# EAGLE library part WIRL-COMB_2620011024000 (library WIRL)
Skoll-I - Bluetooth® Classic and Bluetooth® LE 2.4 GHz WIRL-COMB Details see: https://we-online.de/katalog/en/article/2620011024000/
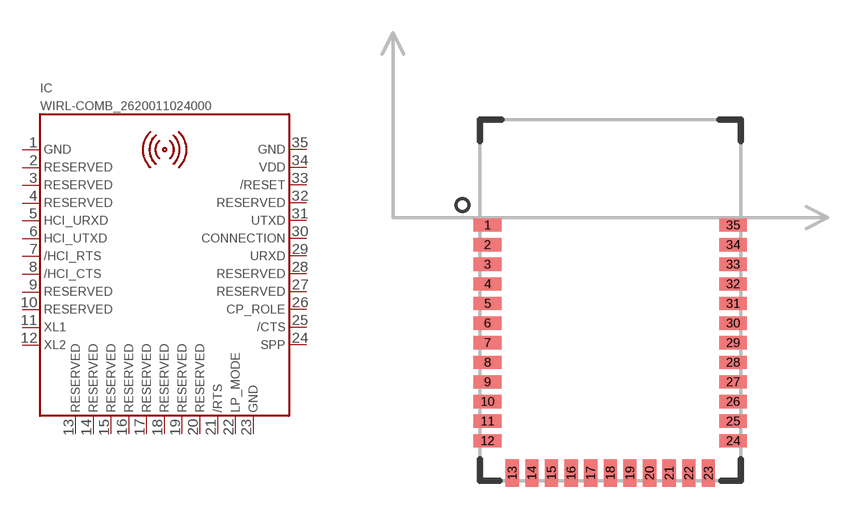
[diagram p44: symbol with the pads of WE-FP-9; footprint WE-FP-9]

Designator prefix IC

## WIRL-COMB_2620011024000 (DATASHEET: https://www.we-online.com/redexpert/spec/2620011024000?ae; HEIGHT: 1.7mm; MANUFACTURER: Würth Elektronik; MOUNT: SMT; PACK: SMT; PART-NUMBER: 2620011024000; PREFIX: IC; VALUE: 2620011024000)  [WE-FP-9]
1  1  pwr
2  2
3  3
4  4
5  5
6  6
7  7
8  8
9  9
10  10
11  11
12  12
13  13
14  14
15  15
16  16
17  17
18  18
19  19
20  20
21  21
22  22
23  23  pwr
24  24
25  25
26  26
27  27
28  28
29  29
30  30
31  31
32  32
33  33
34  34  pwr
35  35  pwr

## Footprint WE-FP-9 (pad centres in mm)
Skoll-I - Bluetooth® Classic and Bluetooth® LE 2.4 GHz WIRL-COMB Details see: https://we-online.de/katalog/en/article/2620011024000/
smd 1.27 x 0.61: 1 -5.646,3.599; 2 -5.646,2.697; 3 -5.646,1.795; 4 -5.646,0.893; 5 -5.646,-0.008; 6 -5.646,-0.91; 7 -5.646,-1.812; 8 -5.646,-2.713; 9 -5.646,-3.615; 10 -5.646,-4.517; 11 -5.646,-5.418; 12 -5.646,-6.32; 24 5.644,-6.32; 25 5.644,-5.418; 26 5.644,-4.517; 27 5.644,-3.615; 28 5.644,-2.713; 29 5.644,-1.812; 30 5.644,-0.91; 31 5.644,-0.008; 32 5.644,0.893; 33 5.644,1.795; 34 5.644,2.697; 35 5.644,3.599
smd 0.61 x 1.27: 13 -4.509,-7.803; 14 -3.607,-7.803; 15 -2.705,-7.803; 16 -1.804,-7.803; 17 -0.902,-7.803; 18 0,-7.803; 19 0.901,-7.803; 20 1.803,-7.803; 21 2.705,-7.803; 22 3.607,-7.803; 23 4.508,-7.803